# Altium footprint library Side2PinConnector.PcbLib: 1 footprints
Each footprint in its own frame and in the unit in brackets; x right, y up, seen from the top. Pads: shape width x height; smd on the part's side, far side on the other; paste and mask are expansions set on the pad; w line width, h text height; cw(c..) or ccw(c..) is an arc to the next point about the centre after c.
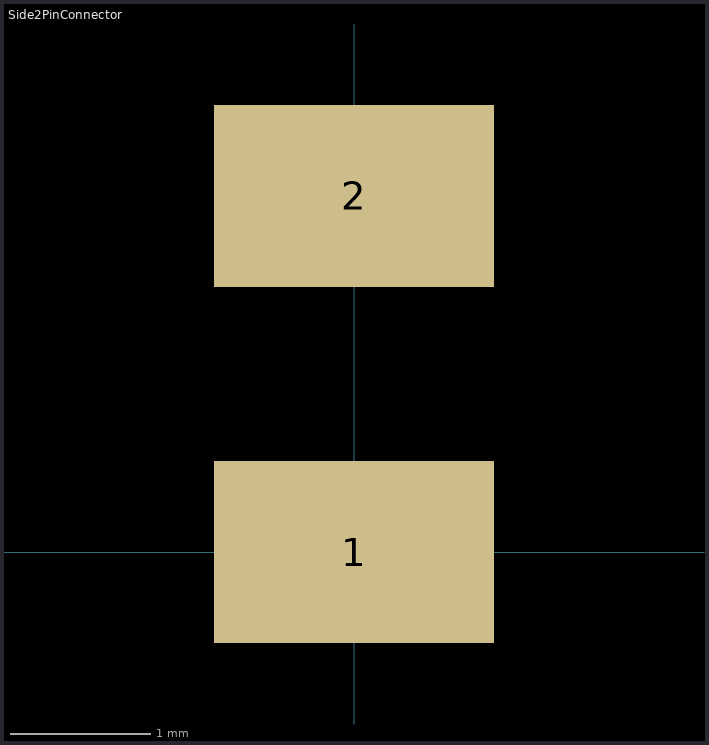
[diagram p0: the footprint, top view; thin cyan lines are the x and y axes]

## Side2PinConnector [mm]
height 2
pads (2):
  rect 2x1.3 smd mask+0.05: 1(0,0) 2(0,2.54)
3D body: height 1.5, standoff 1, extent -10.16,2.032 -4.318,3.048
3D body: height 1.5, standoff 1, extent -10.16,-0.508 -4.318,0.508
3D body: height 1.25, standoff 0, extent -1.778,2.032 0.762,3.048
3D body: height 1.25, standoff 0, extent -1.778,-0.508 0.762,0.508
3D body: height 2.5, standoff 0, extent -4.318,-1.27 -1.778,3.81